# EAGLE library part ATMEGA328PB-MU (library ATMEGA328PB-MU)
AVR 32KBytes Flash, 1KBytes EEPROM, 2KBytes RAM, w - 20MHZ, QFN/MFL, IND TEMP, GREEN 5 V/ DFN/QFN (M)
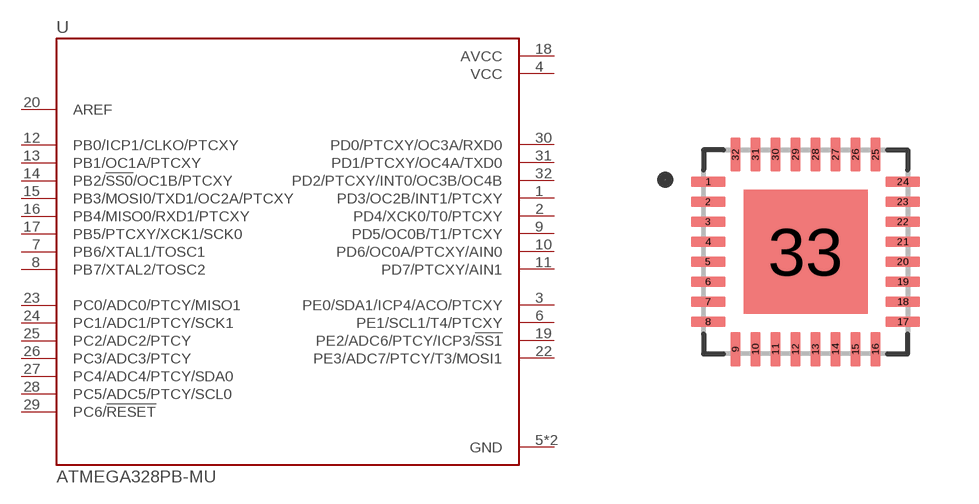
[diagram p0: symbol with the pads of QFN50P500X500X90-33N; footprint QFN50P500X500X90-33N]

Designator prefix U

## ATMEGA328PB-MU (Availability: Unavailable; Description: AVR 32KBytes Flash, 1KBytes EEPROM, 2KBytes RAM, w - 20MHZ, QFN/MFL, IND TEMP, GREEN 5 V/ DFN/QFN _M_; MF: Microchip; MP: ATMEGA328PB-MU; Package: VFQFN-32 Microchip; Price: None)  [QFN50P500X500X90-33N]
1  PD3/OC2B/INT1/PTCXY
2  PD4/XCK0/T0/PTCXY
3  PE0/SDA1/ICP4/ACO/PTCXY
4  VCC  pwr
5  GND  pwr
6  PE1/SCL1/T4/PTCXY
7  PB6/XTAL1/TOSC1
8  PB7/XTAL2/TOSC2
9  PD5/OC0B/T1/PTCXY
10  PD6/OC0A/PTCXY/AIN0
11  PD7/PTCXY/AIN1
12  PB0/ICP1/CLKO/PTCXY
13  PB1/OC1A/PTCXY
14  PB2/!SS0!/OC1B/PTCXY
15  PB3/MOSI0/TXD1/OC2A/PTCXY
16  PB4/MISO0/RXD1/PTCXY
17  PB5/PTCXY/XCK1/SCK0
18  AVCC  pwr
19  PE2/ADC6/PTCY/ICP3/!SS1!
20  AREF  in
21  GND  pwr
22  PE3/ADC7/PTCY/T3/MOSI1
23  PC0/ADC0/PTCY/MISO1
24  PC1/ADC1/PTCY/SCK1
25  PC2/ADC2/PTCY
26  PC3/ADC3/PTCY
27  PC4/ADC4/PTCY/SDA0
28  PC5/ADC5/PTCY/SCL0
29  PC6/!RESET!
30  PD0/PTCXY/OC3A/RXD0
31  PD1/PTCXY/OC4A/TXD0
32  PD2/PTCXY/INT0/OC3B/OC4B

## Footprint QFN50P500X500X90-33N (pad centres in mm)
smd 0.86 x 0.26: 1 -2.435,1.75; 2 -2.435,1.25; 3 -2.435,0.75; 4 -2.435,0.25; 5 -2.435,-0.25; 6 -2.435,-0.75; 7 -2.435,-1.25; 8 -2.435,-1.75; 17 2.435,-1.75; 18 2.435,-1.25; 19 2.435,-0.75; 20 2.435,-0.25; 21 2.435,0.25; 22 2.435,0.75; 23 2.435,1.25; 24 2.435,1.75
smd 0.26 x 0.86: 9 -1.75,-2.435; 10 -1.25,-2.435; 11 -0.75,-2.435; 12 -0.25,-2.435; 13 0.25,-2.435; 14 0.75,-2.435; 15 1.25,-2.435; 16 1.75,-2.435; 25 1.75,2.435; 26 1.25,2.435; 27 0.75,2.435; 28 0.25,2.435; 29 -0.25,2.435; 30 -0.75,2.435; 31 -1.25,2.435; 32 -1.75,2.435
smd 3.1 x 3.1: 33 0,0